# Altium schematic symbol library Base Station v1.SCHLIB: 25 symbols
Pins are listed as number, name and electrical type; pins without a type are passive.

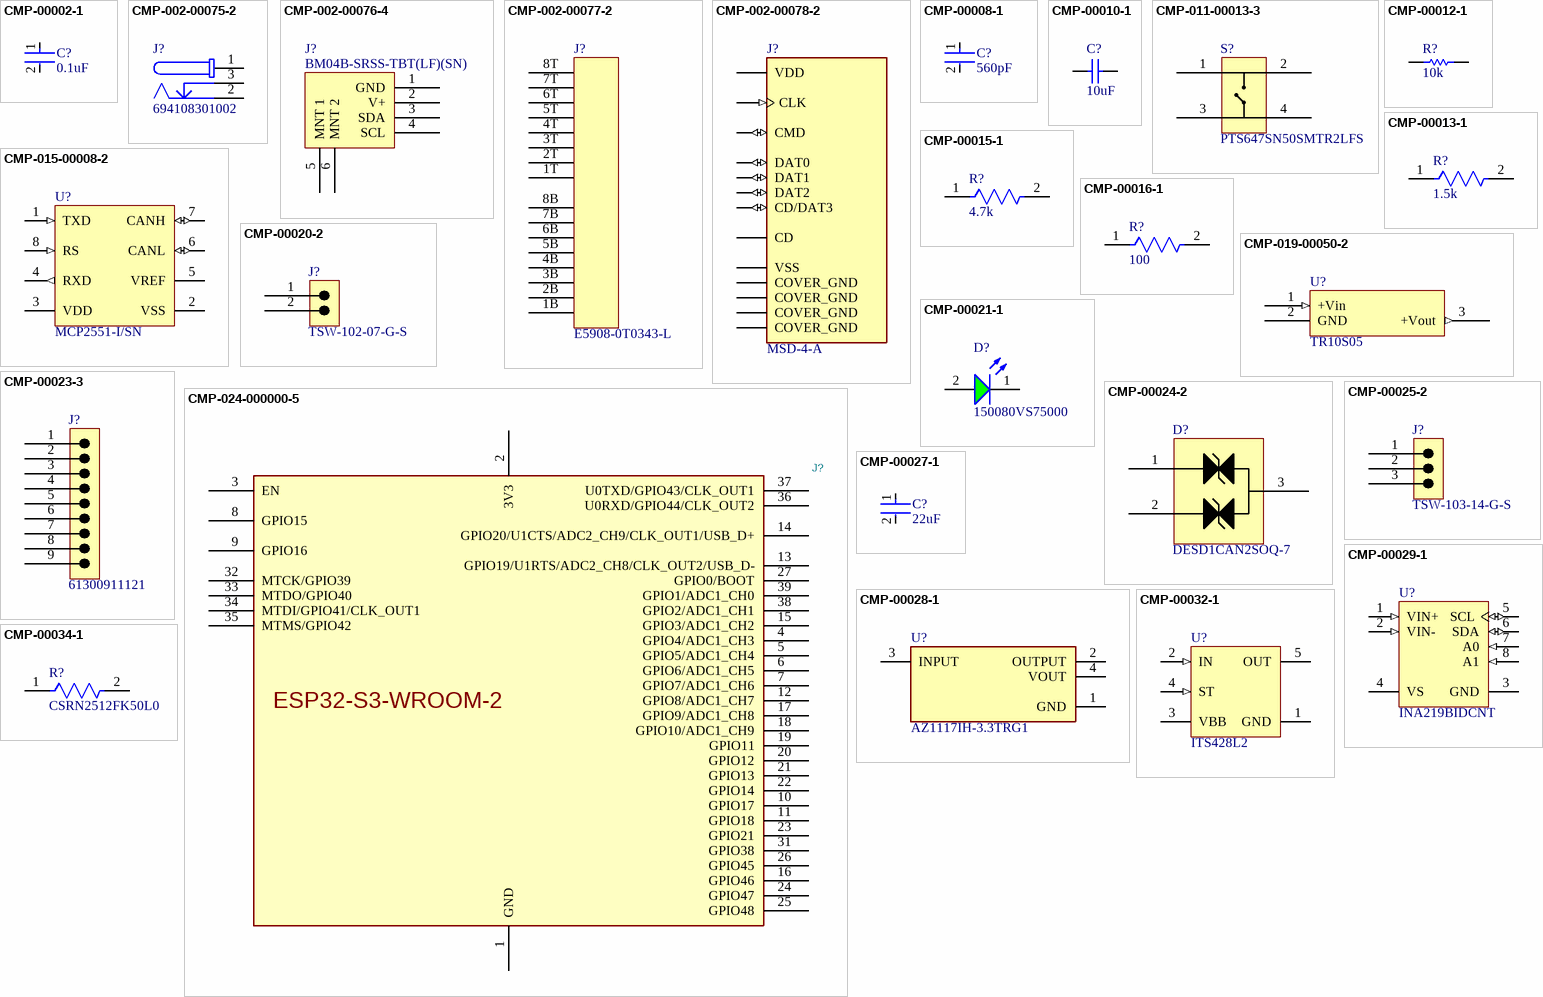
[diagram p0: symbols CMP-00002-1 to CMP-00034-1]

## CMP-00002-1
designator C?, comment 0.1uF
Ceramic Capacitor, Multilayer, Ceramic, 50V, 10% +Tol, 10% -Tol, X7R, 15% TC, 0.1uF, Surface Mount, 0603; Manufacturer: Yageo; Manufacturer Part Number: CC0603KRX7R9BB104; Value: 100nF; Multilayer: Yes; Reach SVHC Compliant: Yes; Temperature Characteristics Code: X7R; Package Style: SMTMeter; Max Operating Temperature: 125°C; Dielectric Material: Ceramic; Mounting Technology: Surface Mount; Packaging: Tape and Reel; Width: 0.8mm; Min Operating Temperature: -55°C; Height: 0.8mm; RoHS Compliant: Yes; Rated DC Voltage (URdc): 50V; Tolerance (fill in as +-): 10%; Terminal Finish: Nickel; Case/Package: 0603; Length: 1.6mm; Tolerance  (fill in as +-): 10%; JESD-609 Code: e3; Package Shape: Rectangular; Capacitor Type: Ceramic; Pins: 2; Termination: Wraparound; Component Type: Project FishWorks
footprint FP-CC0603-DA-IPC_B
footprint FP-CC0603-DA-IPC_C
footprint FP-CC0603-DA-MFG
footprint FP-CC0603-DA-IPC_A
pins: 1, 2

## CMP-002-00075-2
designator J?, comment 694108301002
DC Power Jack Connector WR-DC, Male, Right Angled, THT, 5 A, 24 V; Manufacturer: Wurth Electronics; Operating Supply Voltage: 24V; Shielding: Unshielded; Number of Contacts: 3; Pin Diameter: 2.5mm; Current Rating: 5A; Connector Type: Power,Jack; Voltage Rating (DC): 20V; Insulation Resistance: 100MR; Body Color: Black; Max Operating Temperature: 85°C; Gender: Male; Termination: Through Hole; Contact Plating: Tin; Contact Gender: Female; Packaging: Bulk; Series: WR-DC; Package Quantity: 500; Mounting Technology: Through Hole; Min Operating Temperature: -40°C; Housing Material: Polyamide; Flammability Rating: UL94 V-0; Reach SVHC Compliant: Unknown; Voltage Rating: 24V; Height: 11mm; Color: Black; RoHS Compliant: Yes; Contact Material: Copper Alloy; Manufacturer Part Number: 694108301002; Component Type: Project FishWorks
footprint 694108301002 (DC Power Jack Right Angled(6.4))
pins: 1, 2, 3

## CMP-002-00076-4
designator J?, comment BM04B-SRSS-TBT(LF)(SN)
1.0mm Pitch, Ultra-Compact, Low Profile Design, Interchangeable Shrouded Header; Manufacturer: JST; Manufacturer Part Number: BM04B-SRSS-TBT(LF)(SN); Component Type: Project FishWorks
footprint FP-BM04B-SRSS-TBT_LF_SN-MFG
pins: 1 GND, 2 V+, 3 SDA, 4 SCL, 5 MNT 1, 6 MNT 2

## CMP-002-00077-2
designator J?, comment E5908-0T0343-L
Telecom and Datacom Connector, 16 Contact(s), Female, Right Angle, Solder Terminal, Jack; Manufacturer Series: E5908; Manufacturer: Pulse; Mixed Contacts: No; Number of Contacts: 16; Option: General Purpose; RoHS Compliant: Yes; Contact Finish - Mating: GOLD (15) OVER NICKEL; Shell Material: Glass; Body/Shell Style: JACK; Mounting Technology: Board; Contact Gender: Female; Termination: Solder; JESD-609 Code: e4; Filter Feature: No; Mounting Style: RIGHT ANGLE; IEC Conformance: No; Reach SVHC Compliant: Yes; Flammability Rating: UL94 V-0; DIN Conformance: No; Contact Finish - Termination: GOLD (15) OVER NICKEL; Insulation Material: Glass; Empty Shell: No; MIL Conformance: No; Connector Type: TELECOM AND DATACOM CONNECTOR; Manufacturer Part Number: E5908-0T0343-L; Component Type: Connectors
footprint E5908-0T0343-L-Footprint-1
pins: 1B, 1T, 2B, 2T, 3B, 3T, 4B, 4T, 5B, 5T, 6B, 6T, 7B, 7T, 8B, 8T

## CMP-002-00078-2
designator J?, comment MSD-4-A
Micro SD Card Connector, 9 Positions, Connector and Ejector, Push In, Auto Eject Out, Surface Mount, 1.8 mm Height Above Board, Gold Flash; MF: CUI Devices; Source: MSD-4-A.SchLib; CUI_purchase_URL: https://www.cuidevices.com/product/interconnect/connectors/memory-card-connectors/sd-card-connectors/msd-4-a?utm_source=snapeda.com&utm_medium=referral&utm_campaign=snapedaBOM; Component Type: Standard; Value: *; Case/Package: None; SnapEDA_Link: https://www.snapeda.com/parts/MSD-4-A/CUI+Devices/view-part/?ref=snap; Pins: 13; MP: MSD-4-A; Check_prices: https://www.snapeda.com/parts/MSD-4-A/CUI+Devices/view-part/?ref=eda; Design Item ID: MSD-4-A; Component Type: Project FishWorks
footprint CUI_MSD-4-A
pins: 1 DAT2 (io), 2 CD/DAT3 (io), 3 CMD (io), 4 VDD (power), 5 CLK (in), 6 VSS (power), 7 DAT0 (io), 8 DAT1 (io), CD, G1 COVER_GND (power), G2 COVER_GND (power), G3 COVER_GND (power), G4 COVER_GND (power)

## CMP-00008-1
designator C?, comment 560pF
Ceramic Capacitor, Multilayer, Ceramic, 50V, 10% +Tol, 10% -Tol, X7R, 15% TC, 0.00056uF, Surface Mount, 1206; Manufacturer: Yageo; Manufacturer Part Number: CC1206KRX7R9BB561; Multilayer: Yes; Terminal Finish: Tin; Tolerance  (fill in as +-): 10%; Case/Package: 1206; Max Operating Temperature: 125°C; Packaging: Tape and Reel; Min Operating Temperature: -55°C; Mounting Technology: Surface Mount; Rated DC Voltage (URdc): 50V; Pins: 2; Capacitor Type: Ceramic; RoHS Compliant: Yes; Reach SVHC Compliant: Yes; Tolerance (fill in as +-): 10%; Package Shape: Rectangular; Termination: Wraparound; Dielectric Material: Ceramic; Temperature Characteristics Code: X7R; Value: 560pF; JESD-609 Code: e3; Component Type: Project FishWorks
footprint FP-CC1206-1_25-IPC_B
footprint FP-CC1206-1_25-IPC_A
footprint FP-CC1206-1_25-IPC_C
footprint FP-CC1206-1_25-MFG
pins: 1, 2

## CMP-00010-1
designator C?, comment 10uF
Ceramic Capacitor, Multilayer, Ceramic, 10V, 80% +Tol, 20% -Tol, Y5V, -82/+22% TC, 10uF, Surface Mount, 0805; Manufacturer: Yageo; Manufacturer Part Number: CC0805ZKY5V6BB106; Multilayer: Yes; Min Operating Temperature: -30°C; Case/Package: 0805; Package Shape: Rectangular; RoHS Compliant: Yes; Termination: Wraparound; Package Style: SMTMeter; Packaging: Tape and Reel; Temperature Characteristics Code: Y5V; Pins: 2; Capacitor Type: Ceramic; Terminal Finish: Nickel; Tolerance (fill in as +-): 80%; Value: 10uF; Max Operating Temperature: 85°C; Length: 2mm; Width: 1.25mm; Dielectric Material: Ceramic; JESD-609 Code: e3; Reach SVHC Compliant: Yes; Height: 1.25mm; Tolerance  (fill in as +-): 20%; Mounting Technology: Surface Mount; Rated DC Voltage (URdc): 10V; Component Type: Project FishWorks
footprint CAPC2013X145X50NL20T25 (Chip Capacitor, 2-Leads, Body 2.00x1.25mm, IPC Medium Density)
footprint CAPC2013X145X50LL20T25 (Chip Capacitor, 2-Leads, Body 2.00x1.25mm, IPC High Density)
footprint CAPC2013X145X50ML20T25 (Chip Capacitor, 2-Leads, Body 2.00x1.25mm, IPC Low Density)
pins: 1, 2

## CMP-011-00013-3
designator S?, comment PTS647SN50SMTR2LFS
Keypad Switch, 1 Switches, SPST, Momentary-tactile, 0.05A, 12VDC, 1.47N, Solder Terminal, Surface Mount-straight; Manufacturer: ITT C&K; RoHS Compliant: Yes; Manufacturer Part Number: PTS647SN50SMTR2LFS; Component Type: Project FishWorks
footprint PTS647SN50SMTR2LFS-Footprint-1
pins: 1, 2, 3, 4

## CMP-00012-1
designator R?, comment 10k
Fixed Resistor, Metal Glaze/thick Film, 0.125W, 10000ohm, 150V, 1% +/-Tol, 100ppm/Cel, Surface Mount, 0805; Manufacturer: Yageo; Manufacturer Part Number: RC0805FR-1010KL; Package Width: 1.25mm; Rated Temperature: 70°C; Package Height: 0.5mm; Power: 125mW; Additional Feature: LASER TRIMMABLE; Temperature Coefficient: 100ppm/°C; Value: 10kR; Package Length: 2mm; Min Operating Temperature: -55°C; Working Voltage: 150V; Case/Package: 0805; Construction: Chip; Termination: Wraparound; Package Shape: Rectangular; Packaging: Tape and Reel; Technology: METAL GLAZE/THICK FILM; RoHS Compliant: Yes; Tolerance: 1%; Reach SVHC Compliant: Yes; Mounting Technology: Surface Mount; Pins: 2; Terminal Finish: Nickel; JESD-609 Code: e3; Max Operating Temperature: 155°C; Package Style: SMTMeter; Resistor Type: FIXED RESISTOR; Component Type: Project FishWorks
footprint RESC2013X60X35ML10T20 (Chip Resistor, 2-Leads, Body 2.00x1.25mm, IPC Low Density)
footprint RESC2013X60X35NL10T20 (Chip Resistor, 2-Leads, Body 2.00x1.25mm, IPC Medium Density)
footprint RESC2013X60X35LL10T20 (Chip Resistor, 2-Leads, Body 2.00x1.25mm, IPC High Density)
pins: 1, 2
1 alternate drawing of the same symbol

## CMP-00013-1
designator R?, comment 1.5k
Fixed Resistor, Thin Film, 0.125W, 1500ohm, 150V, 1% +/-Tol, 50ppm/Cel, Surface Mount, 0805; Manufacturer: Yageo; Manufacturer Part Number: RT0805FRE071K5L; Package Width: 1.25mm; Package Height: 0.5mm; Additional Feature: HIGH PRECISION; Temperature Coefficient: 50ppm/°C; Power: 125mW; Rated Temperature: 70°C; Package Length: 2mm; Value: 1.5kR; Termination: Wraparound; Packaging: Tape and Reel; Reach SVHC Compliant: Yes; Pins: 2; Working Voltage: 150V; Construction: Chip; Package Style: SMTMeter; Max Operating Temperature: 155°C; Case/Package: 0805; Resistor Type: FIXED RESISTOR; Mounting Technology: Surface Mount; Technology: THIN FILM; Min Operating Temperature: -55°C; Tolerance: 1%; RoHS Compliant: Yes; Component Type: Project FishWorks
footprint FP-RT0805-MFG
footprint FP-RT0805-IPC_C
footprint FP-RT0805-IPC_B
footprint FP-RT0805-IPC_A
pins: 1, 2

## CMP-00015-1
designator R?, comment 4.7k
Fixed Resistor, Thin Film, 0.125W, 4700ohm, 150V, 1% +/-Tol, 50ppm/Cel, Surface Mount, 0805; Manufacturer: Yageo; Manufacturer Part Number: RT0805FRE134K7L; Temperature Coefficient: 50ppm/°C; Package Height: 0.5mm; Rated Temperature: 70°C; Power: 125mW; Additional Feature: HIGH PRECISION; Value: 4.7kR; Package Length: 2mm; Package Width: 1.25mm; Construction: Chip; Resistor Type: FIXED RESISTOR; Pins: 2; Reach SVHC Compliant: Yes; Tolerance: 1%; Package Style: SMTMeter; Packaging: Tape and Reel; RoHS Compliant: Yes; Termination: Wraparound; Mounting Technology: Surface Mount; Case/Package: 0805; Max Operating Temperature: 155°C; Technology: THIN FILM; Min Operating Temperature: -55°C; Working Voltage: 150V; Component Type: Project FishWorks
footprint FP-RT0805-MFG
footprint FP-RT0805-IPC_C
footprint FP-RT0805-IPC_B
footprint FP-RT0805-IPC_A
pins: 1, 2

## CMP-015-00008-2
designator U?, comment MCP2551-I/SN
CAN Transceiver, 1-Trnsvr, PDSO8; Manufacturer: Microchip; Max Supply Current: 75uA; Power Supplies: 5V; Number of Transceivers: 1; Data Rate: 1000Mbps; Qualification Status: Not Qualified; Time @ Peak Reflow Temperature-Max (s): 40s; Telecom IC Type: INTERFACE CIRCUIT; Package Equivalence Code: SOP8,.25; Package Body Material: Plastic; Technology: CMOS; Min Operating Temperature: -40°C; RoHS Compliant: Yes; Height - Seated (Max): 1.75mm; Terminal Position: DUAL; Surface Mount: Yes; Package Style: SMALL OUTLINEMeter; Terminal Finish: Tin; Terminal Pitch: 1.27mm; JESD-30 Code: R-PDSO-G8; Case/Package: SOP; Nominal Supply Voltage: 5V; Width: 3.9mm; Length: 4.9mm; Peak Reflow Temperature (Cel): 260°C; Package Shape: Rectangular; Channels: 1; Reach SVHC Compliant: Yes; Pins: 8; Temperature Grade: INDUSTRIAL; Terminal Form: Gull Wing; JESD-609 Code: e3; Max Operating Temperature: 85°C; Moisture Sensitivity Level: 1; Manufacturer Part Number: MCP2551-I/SN; Component Type: Project FishWorks
footprint MCHP-SN8_V (SOIC, 8-Leads, Body 4.9x3.9mm, Pitch 1.27mm)
pins: 1 TXD (in) "Transmit Data Input", 2 VSS (power) "Ground", 3 VDD (power) "Supply Voltage", 4 RXD (out) "Receive Data Output", 5 VREF (power) "Reference Output Voltage", 6 CANL (io) "CAN Low-Level Voltage I/O", 7 CANH (io) "CAN High-Level Voltage I/O", 8 RS (in) "Slope-Control Input"

## CMP-00016-1
designator R?, comment 100
Fixed Resistor, Thin Film, 0.125W, 100ohm, 150V, 0.1% +/-Tol, 25ppm/Cel, Surface Mount, 0805; Manufacturer: Yageo; Manufacturer Part Number: RT0805BRD07100RL; Package Height: 0.5mm; Package Length: 2mm; Rated Temperature: 70°C; Temperature Coefficient: 25ppm/°C; Value: 100R; Power: 125mW; Additional Feature: HIGH PRECISION; Package Width: 1.25mm; Packaging: Tape and Reel; Max Operating Temperature: 155°C; Construction: Chip; Pins: 2; Termination: Wraparound; Mounting Technology: Surface Mount; Reach SVHC Compliant: Yes; Case/Package: 0805; Package Style: SMTMeter; RoHS Compliant: Yes; Working Voltage: 150V; Min Operating Temperature: -55°C; Technology: THIN FILM; Resistor Type: FIXED RESISTOR; Tolerance: 0.1%; Component Type: Project FishWorks
footprint FP-RT0805-0_6-MFG
footprint FP-RT0805-0_6-IPC_A
footprint FP-RT0805-0_6-IPC_B
footprint FP-RT0805-0_6-IPC_C
pins: 1, 2

## CMP-019-00050-2
designator U?, comment TR10S05
DC-DC Regulated Power Supply Module; Manufacturer: XP Power; Reach SVHC Compliant: Yes; RoHS Compliant: Yes; Throw Configuration: DC-DC REGULATED POWER SUPPLY MODULE; Manufacturer Part Number: TR10S05; Component Type: Project FishWorks
footprint TR10S05-Footprint-1
pins: 1 +Vin (in), 2 GND (power), 3 +Vout (out)

## CMP-00020-2
designator J?, comment TSW-102-07-G-S
Board Connector, 2 Contact(s), 1 Row(s), Male, Straight, 0.1 inch Pitch, Solder Terminal, Black Insulator; Manufacturer: Samtec; Additional Feature: E.L.P.; Mixed Contacts: No; Plating Thickness: 10uin; Reliability: COMMERCIAL; Number of Rows Loaded: 1; Option: General Purpose; Number of Contacts: 2; Body/Shell Style: RECEPTACLE; PCB Contact Pattern: RECTANGULAR; Contact Style: SQ PIN-SKT; Mating Information: MULTIPLE MATING PARTS AVAILABLE; Reference Standard: UL; Mating Contact Pitch: 0.1inch; DIN Conformance: No; Terminal Length: 0.1inch; Flammability Rating: UL94 V-0; Body Depth: 0.1inch; Contact Finish - Termination: Gold (Au) - with Nickel (Ni) barrier; Body Breadth: 0.1inch; Reach SVHC Compliant: Yes; MIL Conformance: No; Contact Pattern: RECTANGULAR; Termination: Solder; Insulation Material: Glass; Insulation Color: Black; Terminal Pitch: 2.54mm; Filter Feature: No; Connector Type: BOARD CONNECTOR; Mounting Style: STRAIGHT; Contact Material: Bronze; Number Of Connectors: 1; Number Of PCB Rows: 1; IEC Conformance: No; Contact Finish - Mating: GOLD (10) OVER NICKEL (50); JESD-609 Code: e4; RoHS Compliant: Yes; Contact Gender: Male; Mounting Technology: Board; Manufacturer Part Number: TSW-102-07-G-S; Component Type: Project FishWorks
footprint FP-TSW-102-07-G-S-MFG
pins: 1, 2

## CMP-00021-1
designator D?, comment 150080VS75000
Single Color LED, Bright Green, Water Clear, 1.4mm; Manufacturer: Wurth Electronics; Shape: Rectangular; Luminous Intensity-Nom: 40mcd; Viewing Angle: 140°; Channels: 1; Forward Current: 30mA; Overall Height: 0.7mm; RoHS Compliant: Yes; Max Operating Temperature: 85°C; Optoelectronic Device Type: SINGLE COLOR LED; Color: Green; Min Operating Temperature: -40°C; Terminal Pitch: 2.1mm; Mounting Technology: Surface Mount; Packaging: Tape and Reel; Reach SVHC Compliant: Yes; Size: 1.4mm; Lens Style: WATER CLEAR; Pins: 2; Manufacturer Part Number: 150080VS75000; Component Type: Project FishWorks
footprint WL-SMCW_0805_150080xx75000 (SMD Mono-color Chip LED, body 2.0x1.25mm)
pins: 1 K, 2 A

## CMP-00023-3
designator J?, comment 61300911121
Board Connector, 9 Contact(s), 1 Row(s), Male, Straight, 0.1 inch Pitch, Solder Terminal, Locking, Black Insulator, Plug; Manufacturer: Wurth Electronics; Reliability: COMMERCIAL; PCB Contact Pattern: RECTANGULAR; Number of Rows Loaded: 1; Contact Resistance: 20mR; Reference Standard: UL; Rated Current (Signal): 3A; Body Length: 0.9inch; Dielectric Withstanding Voltage (AC): 500V; Contact Style: SQ PIN-SKT; Insulation Resistance: 1GR; Number of Contacts: 9; Contact Finish - Termination: Gold (Au) - with Nickel (Ni) barrier; Contact Material: Copper Alloy; Mating Contact Pitch: 0.1inch; Insulation Material: Polybutylene; Mounting Technology: Board; Mounting Option 1: LOCKING; Max Operating Temperature: 125°C; Body/Shell Style: PLUG; Min Operating Temperature: -40°C; Contact Gender: Male; Connector Type: BOARD CONNECTOR; RoHS Compliant: Yes; Mounting Style: STRAIGHT; Terminal Pitch: 2.54mm; Contact Pattern: RECTANGULAR; Termination: Solder; Terminal Length: 0.118inch; Number Of Connectors: 1; Reach SVHC Compliant: Yes; Body Depth: 0.1inch; Body Breadth: 0.1inch; Insulation Color: Black; JESD-609 Code: e4; Contact Finish - Mating: GOLD; Manufacturer Part Number: 61300911121; Component Type: Project FishWorks
footprint 61300911121 (Pin Header, pitch 2.54 mm, THT, Vertical, single row, 9p)
pins: 1, 2, 3, 4, 5, 6, 7, 8, 9

## CMP-024-000000-5
designator J?, comment ESP32-S3-WROOM-2  (value not drawn)
Reference: U; ki_description: 2.4 GHz WiFi (802.11 b/g/n) and Bluetooth ® 5 (LE) module Built around ESP32S3 series of SoCs, Xtensa ® dualcore 32bit LX7 microprocessor Flash up to 16 MB, PSRAM up to 8 MB 36 GPIOs, rich set of peripherals Onboard PCB antenna; Value: ESP32-S3-WROOM-2; Source: ESP32S3.SchLib; Datasheet: https://www.espressif.com/sites/default/files/documentation/esp32-s3-wroom-2_datasheet_en.pdf; Design Item ID: ESP32-S3-WROOM-2; Component Type: Project FishWorks
footprint ESP32-S3-WROOM-2
pins: 1 GND, 2 3V3, 3 EN, 4 GPIO4/ADC1_CH3, 5 GPIO5/ADC1_CH4, 6 GPIO6/ADC1_CH5, 7 GPIO7/ADC1_CH6, 8 GPIO15, 9 GPIO16, 10 GPIO17, 11 GPIO18, 12 GPIO8/ADC1_CH7, 13 GPIO19/U1RTS/ADC2_CH8/CLK_OUT2/USB_D-, 14 GPIO20/U1CTS/ADC2_CH9/CLK_OUT1/USB_D+, 15 GPIO3/ADC1_CH2, 16 GPIO46, 17 GPIO9/ADC1_CH8, 18 GPIO10/ADC1_CH9, 19 GPIO11, 20 GPIO12, 21 GPIO13, 22 GPIO14, 23 GPIO21, 24 GPIO47, 25 GPIO48, 26 GPIO45, 27 GPIO0/BOOT, 28 NC hidden, 29 NC hidden, 30 NC hidden, 31 GPIO38, 32 MTCK/GPIO39, 33 MTDO/GPIO40, 34 MTDI/GPIO41/CLK_OUT1, 35 MTMS/GPIO42, 36 U0RXD/GPIO44/CLK_OUT2, 37 U0TXD/GPIO43/CLK_OUT1, 38 GPIO2/ADC1_CH1, 39 GPIO1/ADC1_CH0, 40 GND hidden, 41 GND hidden

## CMP-00024-2
designator D?, comment DESD1CAN2SOQ-7
Trans Voltage Suppressor Diode, 200W, 24V V(RWM), Bidirectional, 2 Element, Silicon; Manufacturer: Diodes; Time @ Peak Reflow Temperature-Max (s): 30s; Reference Standard: AEC-Q101; Max Power Dissipation: 300mW; Min Breakdown Voltage: 25.4V; Number of Elements: 2; Additional Feature: HIGH RELIABILITY; Max Breakdown Voltage: 30.3V; Package Body Material: Plastic; Technology: AVALANCHE; JESD-30 Code: R-PDSO-G3; Reach SVHC Compliant: Yes; RoHS Compliant: Yes; Min Operating Temperature: -65°C; JESD-609 Code: e3; Surface Mount: Yes; Max Operating Temperature: 150°C; Pins: 3; Terminal Position: DUAL; Package Shape: Rectangular; Polarity: Bidirectional; Non-rep Peak Rev Power Dis-Max: 200W; Moisture Sensitivity Level: 1; Terminal Finish: Tin; Package Style: SMALL OUTLINEMeter; Peak Reflow Temperature (Cel): 260°C; Rep Pk Reverse Voltage-Max: 24V; Terminal Form: Gull Wing; Diode Type: TRANS VOLTAGE SUPPRESSOR; Diode Element Material: SILICON; Manufacturer Part Number: DESD1CAN2SOQ-7; Component Type: Project FishWorks
footprint SOT95P245X110-3N (SOT23, 3-Leads, Body 2.90x2.45mm, Pitch 0.95mm, IPC Medium Density)
pins: 1, 2, 3

## CMP-00025-2
designator J?, comment TSW-103-14-G-S
Board Connector, 3 Contact(s), 1 Row(s), Male, Straight, 0.1 inch Pitch, Solder Terminal, Black Insulator, Receptacle; Manufacturer: Samtec; Additional Feature: E.L.P.; MIL Conformance: No; PCB Contact Pattern: RECTANGULAR; Mating Information: MULTIPLE MATING PARTS AVAILABLE; Number of Contacts: 3; Plating Thickness: 10uin; Reference Standard: UL; Reliability: COMMERCIAL; Contact Style: SQ PIN-SKT; Option: General Purpose; Number of Rows Loaded: 1; Contact Finish - Mating: GOLD (10) OVER NICKEL (50); Mounting Style: STRAIGHT; Reach SVHC Compliant: Yes; DIN Conformance: No; Filter Feature: No; Mixed Contacts: No; Body Depth: 0.1inch; Terminal Length: 0.11inch; Contact Pattern: RECTANGULAR; Contact Finish - Termination: Gold (Au) - with Nickel (Ni) barrier; Connector Type: BOARD CONNECTOR; Body Breadth: 0.1inch; Termination: Solder; Insulation Material: Glass; Body/Shell Style: RECEPTACLE; IEC Conformance: No; Insulation Color: Black; Contact Material: Bronze; RoHS Compliant: Yes; Mounting Technology: Board; Number Of Connectors: 1; Mating Contact Pitch: 0.1inch; JESD-609 Code: e4; Number Of PCB Rows: 1; Contact Gender: Male; Terminal Pitch: 2.54mm; Manufacturer Part Number: TSW-103-14-G-S; Component Type: Project FishWorks
footprint FP-TSW-103-14-G-S-MFG
pins: 1, 2, 3

## CMP-00027-1
designator C?, comment 22uF
Ceramic Capacitor, Multilayer, Ceramic, 35V, 20% +Tol, 20% -Tol, X5R, 15% TC, 22uF, Surface Mount, 0805; Manufacturer: Cal-Chip Electronics; Manufacturer Part Number: GMC21X5R226M35NT; Component Type: Project FishWorks
footprint FP-GMC21R-IPC_B
footprint FP-GMC21R-MFG
footprint FP-GMC21R-IPC_C
footprint FP-GMC21R-IPC_A
pins: 1, 2

## CMP-00028-1
designator U?, comment AZ1117IH-3.3TRG1
Fixed Positive LDO Regulator, 3.3V, 1.3V Dropout, PDSO3; Manufacturer: Diodes; Output Voltage1-Min: 3.235V; Output Current1-Max: 800mA; Output Voltage1-Max: 3.365V; Channels: 1; Max Supply Voltage: 15V; Regulator Type: FIXED POSITIVE SINGLE OUTPUT LDO REGULATOR; Package Body Material: Plastic; Dropout Voltage1-Max: 1.3V; Surface Mount: Yes; Output Voltage1-Nom: 3.3V; Terminal Position: DUAL; Terminal Pitch: 2.3mm; RoHS Compliant: Yes; Case/Package: SOP; Reach SVHC Compliant: Yes; Length: 6.5mm; Operating Temperature, TJ-Max: 125°C; JESD-30 Code: R-PDSO-G3; Operating Temperature, TJ-Min: -40°C; Pins: 3; Height - Seated (Max): 1.8mm; Terminal Form: Gull Wing; Package Style: SMALL OUTLINEMeter; Package Shape: Rectangular; Width: 3.5mm; Manufacturer Part Number: AZ1117IH-3.3TRG1; Component Type: Project FishWorks
footprint FP-SOT223-IPC_B
footprint FP-SOT223-IPC_C
footprint FP-SOT223-MFG
footprint FP-SOT223-IPC_A
pins: 1 GND (power), 2 OUTPUT (power), 3 INPUT (power), 4 VOUT (power)

## CMP-00029-1
designator U?, comment INA219BIDCNT
Power Supply Support Circuit, Fixed, 2 Channel, 2V, PDSO8; Manufacturer: Texas Instruments; Package Equivalence Code: TSSOP8,.1; Power Supplies: 3.3V; Number of Channels: 2; Package Body Material: Plastic; Supply Current-Max (Isup): 1mA; Qualification Status: Not Qualified; Channels: 1; Min Supply Voltage: 3V; Adjustable Threshold: No; Max Supply Voltage: 5.5V; Length: 2.9mm; Temperature Grade: AUTOMOTIVE; Terminal Position: DUAL; Surface Mount: Yes; Terminal Form: Gull Wing; Terminal Pitch: 0.65mm; Case/Package: LSSOP; Moisture Sensitivity Level: 2; JESD-30 Code: R-PDSO-G8; Width: 1.6mm; Min Operating Temperature: -40°C; Throw Configuration: POWER SUPPLY SUPPORT CIRCUIT; Package Shape: Rectangular; Height - Seated (Max): 1.45mm; Terminal Finish: Nickel; JESD-609 Code: e4; Peak Reflow Temperature (Cel): 260°C; Nominal Supply Voltage: 3.3V; Package Style: SMALL OUTLINE, LOW PROFILE, SHRINK PITCHMeter; Pins: 8; RoHS Compliant: Yes; Max Operating Temperature: 125°C; Reach SVHC Compliant: Yes; Manufacturer Part Number: INA219BIDCNT; Component Type: Project FishWorks
footprint DCN0008A_M (SOT23, 8-Leads, Body 3x1.75mm, Pitch 0.65mm, IPC Low Density)
footprint DCN0008A_L (SOT23, 8-Leads, Body 3x1.75mm, Pitch 0.65mm, IPC High Density)
footprint DCN0008A_N (SOT23, 8-Leads, Body 3x1.75mm, Pitch 0.65mm, IPC Medium Density)
pins: 1 VIN+ (in) "Positive differential shunt voltage. Connect to positive side of shunt resistor.", 2 VIN- (in) "Negative differential shunt voltage. Connect to negative side of shunt resistor. Bus voltage is measured from this pin to ground.", 3 GND (power) "Ground.", 4 VS (power) "Power supply, 3V to 5.5V.", 5 SCL (io) "Serial bus clock line.", 6 SDA (io) "Serial bus data line.", 7 A0 (in) "Address pin.", 8 A1 (in) "Address pin."

## CMP-00032-1
designator U?, comment ITS428L2
Buffer/Inverter Based Peripheral Driver, 1 Driver, 1.8A, PSSO4; Manufacturer: Infineon; Power Supplies: 12V; Driver Number of Bits: 1; Qualification Status: Not Qualified; Max Supply Voltage: 43V; Interface IC Type: BUFFER OR INVERTER BASED PERIPHERAL DRIVER; Turn-Off Delay Time: 200us; Built-in Protections: Over Current,Over Voltage,Under Voltage,TRANSIENT,THERMAL; Nominal Supply Voltage: 5V; Min Supply Voltage: 4.75V; Output Current Flow Direction: SINK; Package Body Material: Plastic; Package Shape: Rectangular; RoHS Compliant: Yes; Moisture Sensitivity Level: 1; Terminal Pitch: 1.14mm; Case/Package: TO-252; Width: 6.22mm; Height - Seated (Max): 2.5mm; Terminal Form: Gull Wing; Min Operating Temperature: -30°C; Terminal Position: SINGLE; Pins: 4; Max Operating Temperature: 85°C; Package Style: SMALL OUTLINEMeter; Channels: 1; Turn-On Delay Time: 200us; Reach SVHC Compliant: No; Surface Mount: Yes; Output Peak Current Limit-Nom: 1.8A; Temperature Grade: COMMERCIAL EXTENDED; Length: 6.5mm; Manufacturer Part Number: ITS428L2; Component Type: Project FishWorks
footprint INF-PG-TO252-5-11_M (DPAK, 5-Leads, Body 6.5x6.12mm, Pitch 1.14mm, IPC Low Density)
footprint INF-PG-TO252-5-11_L (DPAK, 5-Leads, Body 6.5x6.12mm, Pitch 1.14mm, IPC High Density)
footprint INF-PG-TO252-5-11_N (DPAK, 5-Leads, Body 6.5x6.12mm, Pitch 1.14mm, IPC Medium Density)
pins: 1 GND (power) "Logic ground", 2 IN (in) "Input,activates the power switch in case of logical high signal", 3 VBB (power) "Positive power supply voltage the tab is shorted to pin 3", 4 ST (in) "Diagnostic feedback,low on failure", 5 OUT (power) "Output to the load"

## CMP-00034-1
designator R?, comment CSRN2512FK50L0
Fixed Resistor, Metal Glaze/thick Film, 2W, 0.05ohm, 1% +/-Tol, 200ppm/Cel, Surface Mount, 2512; Manufacturer: Stackpole Electronics; Temperature Coefficient: 200ppm/°C; Rated Temperature: 70°C; Package Height: 0.6mm; Package Width: 3.15mm; Value: 50mR; Package Length: 6.35mm; Package Style: SMTMeter; Terminal Finish: Nickel; RoHS Compliant: Yes; Power: 2W; Pins: 2; Package Shape: Rectangular; Construction: Rectangular; Resistor Type: FIXED RESISTOR; Case/Package: 2512; Max Operating Temperature: 155°C; Tolerance: 1%; JESD-609 Code: e3; Technology: METAL GLAZE/THICK FILM; Packaging: Tape and Reel; Mounting Technology: Surface Mount; Reach SVHC Compliant: Yes; Min Operating Temperature: -55°C; Termination: Wraparound; Manufacturer Part Number: CSRN2512FK50L0; Component Type: Project FishWorks
footprint FP-CSRN2512-IPC_B
footprint FP-CSRN2512-MFG
footprint FP-CSRN2512-IPC_C
footprint FP-CSRN2512-IPC_A
pins: 1, 2